# Altium footprint library WE_7490140112.PcbLib: 1 footprints
Each footprint in its own frame and in the unit in brackets; x right, y up, seen from the top. Pads: shape width x height; smd on the part's side, far side on the other; paste and mask are expansions set on the pad; w line width, h text height; cw(c..) or ccw(c..) is an arc to the next point about the centre after c.
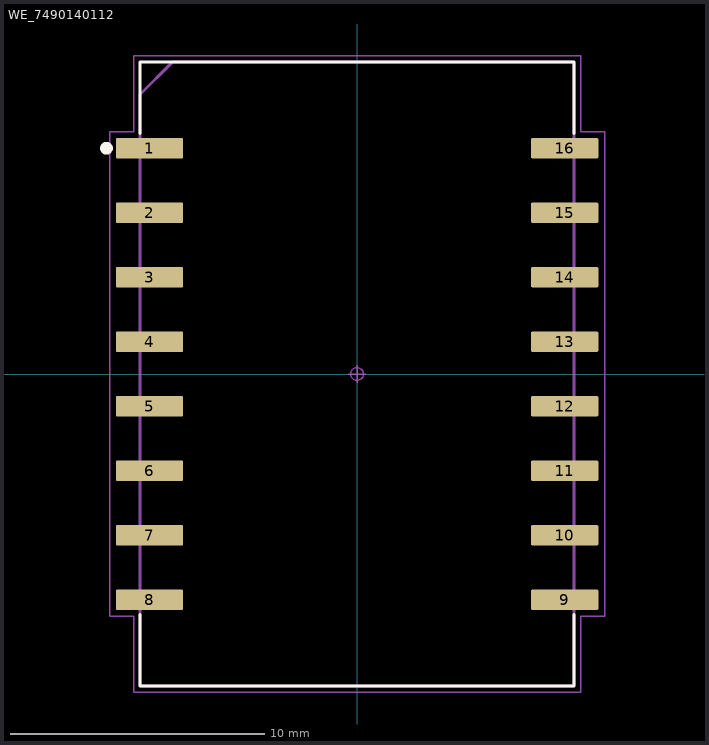
[diagram p0: the footprint, top view; thin cyan lines are the x and y axes]

## WE_7490140112 [mm] "SMD-16, 2.54 mm pitch; 16 pin, 24.50 mm L X 17.00 mm W X 10.85 mm H body"
pads (16):
  rrect10% 2.65x0.79 smd: 1(-8.175,8.89) 2(-8.175,6.35) 3(-8.175,3.81) 4(-8.175,1.27) 5(-8.175,-1.27) 6(-8.175,-3.81) 7(-8.175,-6.35) 8(-8.175,-8.89) 9(8.175,-8.89) 10(8.175,-6.35) 11(8.175,-3.81) 12(8.175,-1.27) 13(8.175,1.27) 14(8.175,3.81) 15(8.175,6.35) 16(8.175,8.89)
Top Overlay:
  circle w0.25: c-9.87,8.89 r0.125
  lines w0.12: -8.55,-9.465 -8.55,-12.28 8.55,-12.28 8.55,-9.465 ; -8.55,9.465 -8.55,12.28 8.55,12.28 8.55,9.465
Mechanical 11:
  lines w0.12: -8.55,-12.28 -8.55,11.01 -7.28,12.28 8.55,12.28 8.55,-12.28 -8.55,-12.28
  text ".Designator" at -6.763,-0.679 h3
Mechanical 15:
  circle w0.05: c0,0 r0.25
  lines w0.05: -0.35,0 0.35,0 ; 0,-0.35 0,0.35 ; -9.75,-9.535 -9.75,9.535 -8.8,9.535 -8.8,12.53 8.8,12.53 8.8,9.535 9.75,9.535 9.75,-9.535 8.8,-9.535 8.8,-12.53 -8.8,-12.53 -8.8,-9.535 -9.75,-9.535
3D body "WE_7490140112.STEP": height 10.85, standoff 0, extent -9.125,-12.275 9.125,12.275